# Altium footprint library POWER_RELAYS_OVER_2_AMPS.PcbLib: 1 footprints
Each footprint in its own frame and in the unit in brackets; x right, y up, seen from the top. Pads: shape width x height; smd on the part's side, far side on the other; paste and mask are expansions set on the pad; w line width, h text height; cw(c..) or ccw(c..) is an arc to the next point about the centre after c.
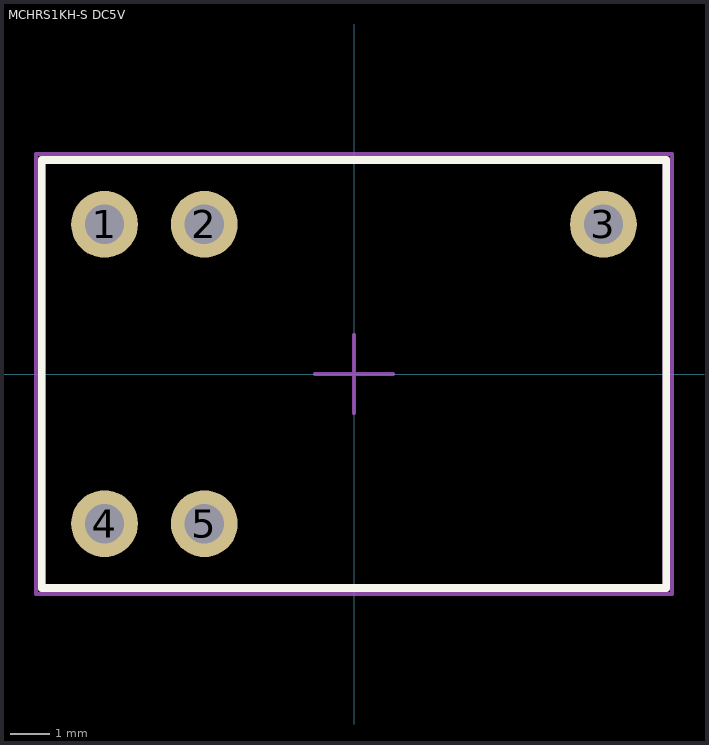
[diagram p0: the footprint, top view; thin cyan lines are the x and y axes]

## MCHRS1KH-S DC5V [mm] "Signal Relay, HRS1K Series, SPDT, 5 VDC, 3 A, Through Hole"
pads (5):
  round 1.7 hole 1: 1(-6.35,3.81) 2(-3.81,3.81) 3(6.35,3.81) 4(-6.35,-3.81) 5(-3.81,-3.81)
Top Overlay:
  lines w0.2: -7.95,-5.45 -7.95,5.45 7.95,5.45 7.95,-5.45 -7.95,-5.45
Top Assembly:
  lines w0.2: -7.95,-5.45 -7.95,5.45 7.95,5.45 7.95,-5.45 -7.95,-5.45
Top Component Center:
  lines w0.1: -1,0 1,0 ; 0,-1 0,1
Top Component Outline:
  lines w0.2: -7.95,-5.45 -7.95,5.45 7.95,5.45 7.95,-5.45 -7.95,-5.45
Top Courtyard:
  lines w0.1: -8.1,-5.6 -8.1,5.6 -7.5,5.6 8.1,5.6 8.1,-5.6 -8.1,-5.6
Top Designator:
  text ".Designator" at -7.618,-0.508 h1.52
3D body "MCHRS1KH-S-DC5V-RELAY.stp": height 11.81, standoff -3.09, extent -7.8,-5.3 7.8,5.3